# EAGLE library part LSK389B (library wheat)
dual nch jfet LSK389 TO71
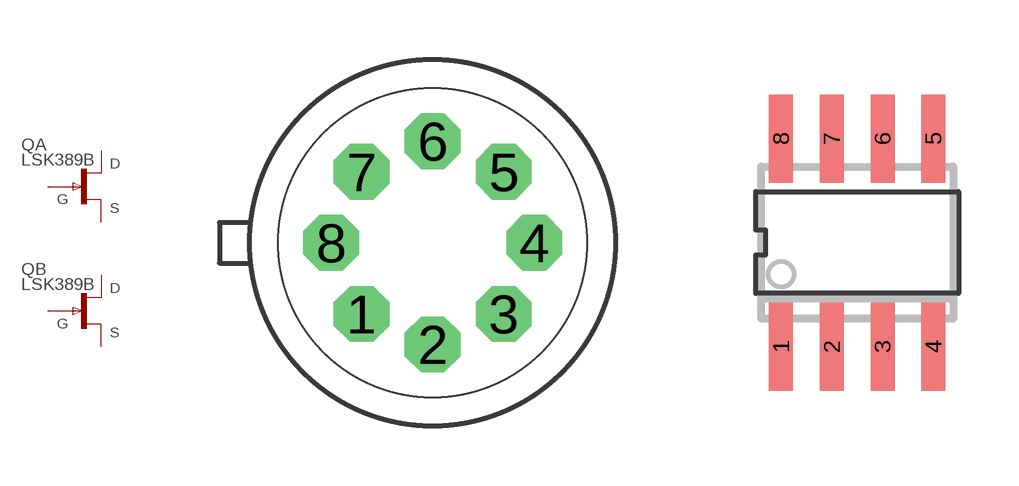
[diagram p88: symbol with the pads of TO99; footprints TO99, SO8]

Designator prefix Q; gates A=JFET_N B=JFET_N

## LSK389B_71  [TO99]
1  A:S  pas
2  A:D  pas
3  A:G  pas
5  B:S  pas
6  B:D  pas
7  B:G  pas

## LSK389B_SO  [SO8]
1  A:S  pas
2  A:D  pas
4  A:G  pas
5  B:S  pas
6  B:D  pas
8  B:G  pas

## LSK389B_TO  [TO71]
Pads as for TO99

## Footprint TO99 (pad centres in mm)
drill 0.813 pad 1.397 octagon: 1 -1.778,-1.778; 2 0,-2.54; 3 1.778,-1.778; 4 2.54,0; 5 1.778,1.778; 6 0,2.54; 7 -1.778,1.778; 8 -2.54,0

## Footprint SO8 (pad centres in mm)
SO8
smd 0.6 x 2.2: 1 -1.905,-2.6; 2 -0.635,-2.6; 3 0.635,-2.6; 4 1.905,-2.6; 5 1.905,2.6; 6 0.635,2.6; 7 -0.635,2.6; 8 -1.905,2.6

## Footprint TO71 (pad centres in mm)
drill 0.813 pad 1.397 octagon: 1 -1.778,-1.778; 2 0,-2.54; 3 1.778,-1.778; 5 1.778,1.778; 6 0,2.54; 7 -1.778,1.778